# Altium schematic symbol library power supplies.SchLib: 55 symbols
Pins are listed as number, name and electrical type; pins without a type are passive.

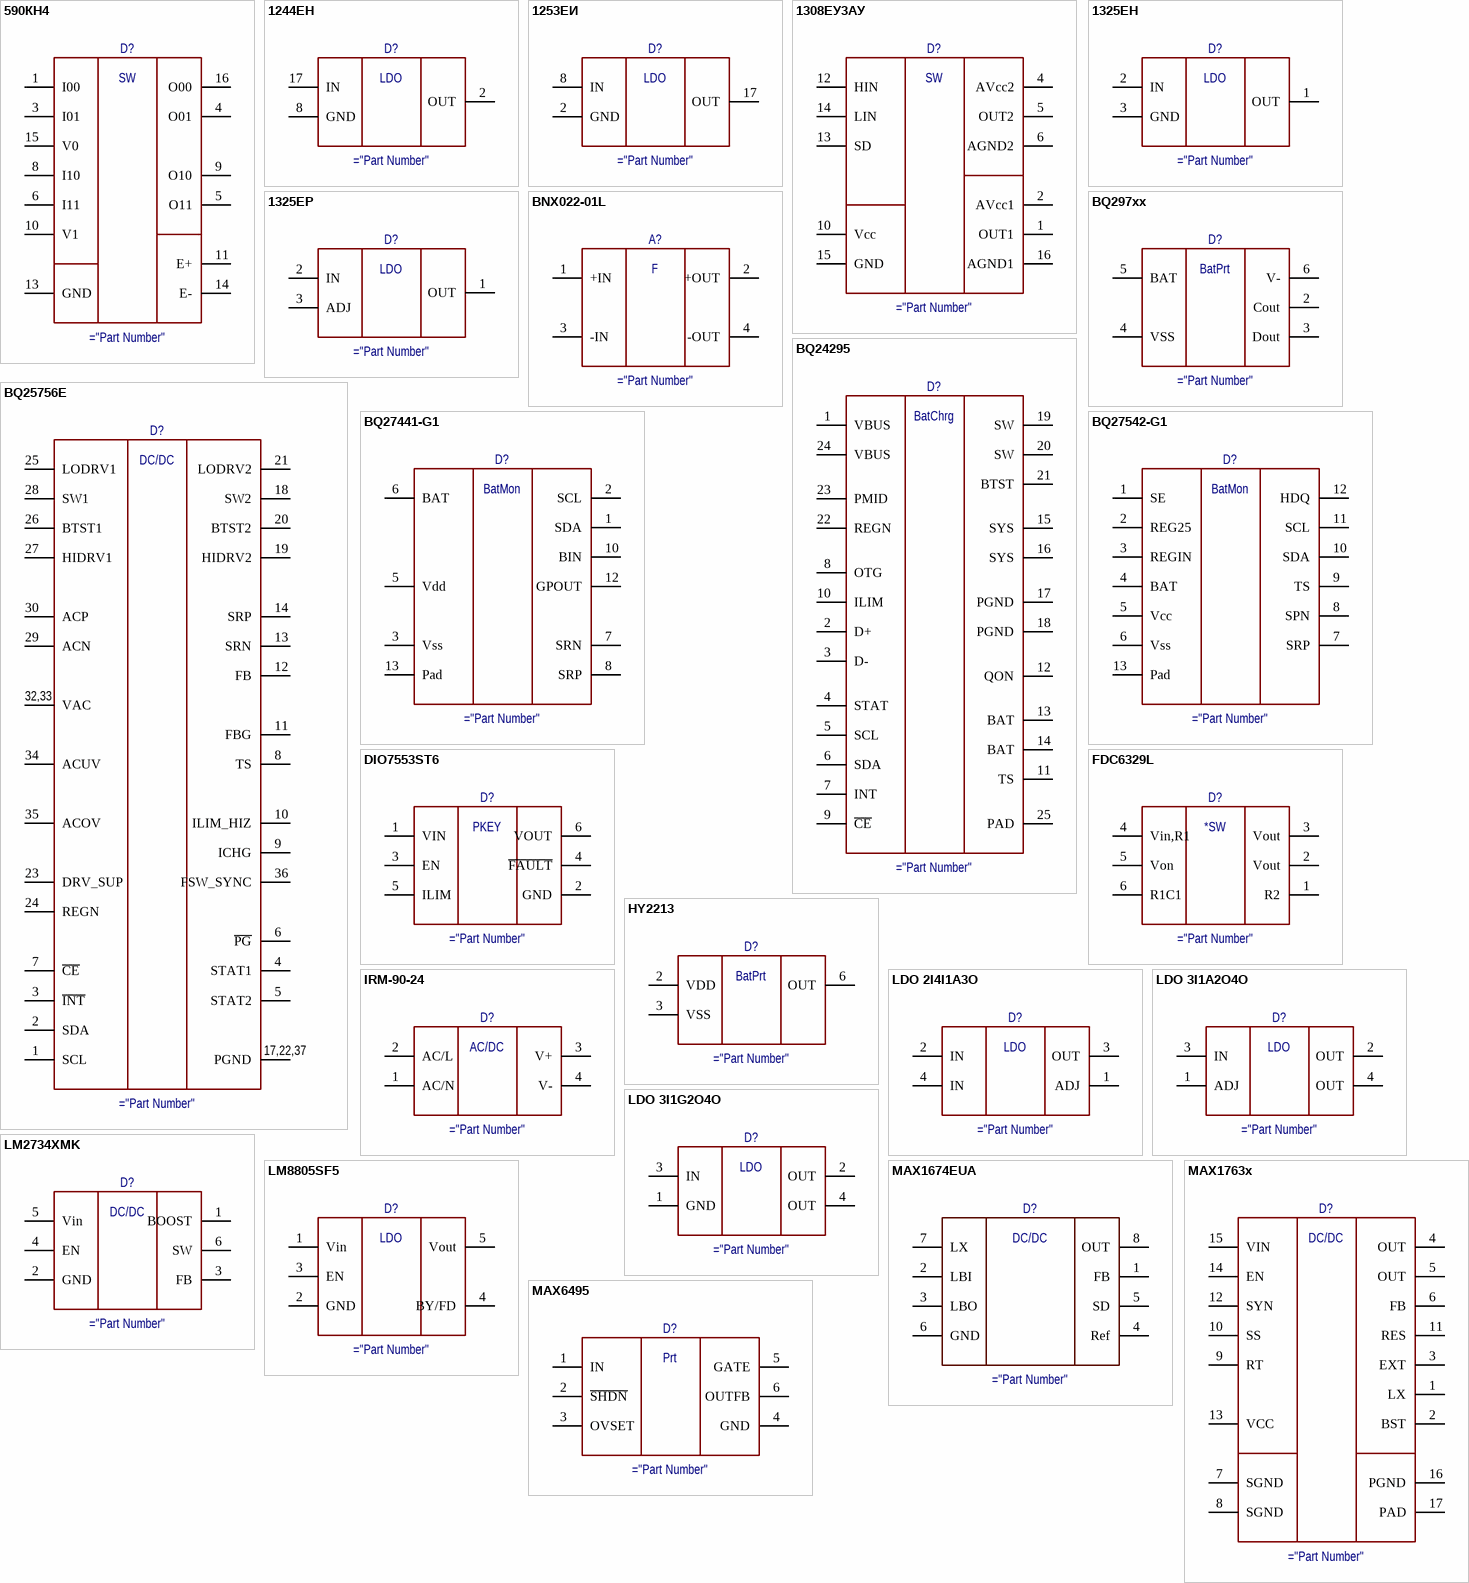
[diagram p0: symbols 590КН4 to MAX6495]

## 590КН4
designator D?
Power Mux
pins: 1 I00, 2 hidden, 3 I01, 4 O01, 5 O11, 6 I11, 7 hidden, 8 I10, 9 O10, 10 V1, 11 E+, 12 hidden, 13 GND, 14 E-, 15 V0, 16 O00
text: SW

## 1244ЕН
designator D?
LDO
pins: 2 OUT, 8 GND, 17 IN

## 1253ЕИ
designator D?
LDO
pins: 2 GND, 8 IN, 17 OUT

## 1308ЕУ3АУ
designator D?
Half-Bridge
pins: 1 OUT1, 2 AVcc1, 3 NC hidden, 4 AVcc2, 5 OUT2, 6 AGND2, 7 NC hidden, 8 NC hidden, 9 NC hidden, 10 Vcc, 11 NC hidden, 12 HIN, 13 SD, 14 LIN, 15 GND, 16 AGND1
text: SW

## 1325ЕН
designator D?
LDO
pins: 1 OUT, 2 IN, 3 GND

## 1325ЕР
designator D?
LDO
pins: 1 OUT, 2 IN, 3 ADJ

## BNX022-01L
designator A?
Filter
pins: 1 +IN, 2 +OUT, 3 -IN, 4 -OUT
text: F

## BQ297xx
designator D?
Battery Protection
pins: 1 NC hidden, 2 Cout, 3 Dout, 4 VSS, 5 BAT, 6 V-
text: BatPrt

## BQ24295
designator D?
Battery Charger 3A
pins: 1 VBUS, 2 D+, 3 D-, 4 STAT, 5 SCL, 6 SDA, 7 INT, 8 OTG, 9 ~{CE}, 10 ILIM, 11 TS, 12 QON, 13 BAT, 14 BAT, 15 SYS, 16 SYS, 17 PGND, 18 PGND, 19 SW, 20 SW, 21 BTST, 22 REGN, 23 PMID, 24 VBUS, 25 PAD
text: BatChrg

## BQ25756E
designator D?
Li-ion charger
pins: 1 SCL, 2 SDA, 3 ~{INT}, 4 STAT1, 5 STAT2, 6 ~{PG}, 7 ~{CE}, 8 TS, 9 ICHG, 10 ILIM_HIZ, 11 FBG, 12 FB, 13 SRN, 14 SRP, 17 PGND, 18 SW2, 19 HIDRV2, 20 BTST2, 21 LODRV2, 22 PGND, 23 DRV_SUP, 24 REGN, 25 LODRV1, 26 BTST1, 27 HIDRV1, 28 SW1, 29 ACN, 30 ACP, 32 VAC, 33 VAC, 34 ACUV, 35 ACOV, 36 FSW_SYNC, 37 PGND
text: DC/DC; 32,33; 17,22,37

## BQ27441-G1
designator D?
Battery Monitor
pins: 1 SDA, 2 SCL, 3 Vss, 4 NC hidden, 5 Vdd, 6 BAT, 7 SRN, 8 SRP, 9 NC hidden, 10 BIN, 11 NC hidden, 12 GPOUT, 13 Pad
text: BatMon

## BQ27542-G1
designator D?
Battery Monitor
pins: 1 SE, 2 REG25, 3 REGIN, 4 BAT, 5 Vcc, 6 Vss, 7 SRP, 8 SPN, 9 TS, 10 SDA, 11 SCL, 12 HDQ, 13 Pad, 14 PPAD hidden, 15 PPAD hidden, 16 PPAD hidden, 17 PPAD hidden, 18 PPAD hidden, 19 PPAD hidden, 20 PPAD hidden
text: BatMon

## DIO7553ST6
designator D?
Load Switch
pins: 1 VIN, 2 GND, 3 EN, 4 ~{FAULT}, 5 ILIM, 6 VOUT
text: PKEY

## FDC6329L
designator D?
Load Switch
pins: 1 R2, 2 Vout, 3 Vout, 4 Vin,R1, 5 Von, 6 R1C1
text: *SW

## HY2213
designator D?
Battery Protection
pins: 1 NC hidden, 2 VDD, 3 VSS, 4 NC hidden, 5 NC hidden, 6 OUT
text: BatPrt

## IRM-90-24
designator D?
AC/DC, 90W, 80-305 VAC, 24V output
pins: 1 AC/N, 2 AC/L, 3 V+, 4 V-
text: AC/DC

## LDO 2I4I1A3O
designator D?
LDO Negative
pins: 1 ADJ, 2 IN, 3 OUT, 4 IN
text: LDO

## LDO 3I1A2O4O
designator D?
LDO
pins: 1 ADJ, 2 OUT, 3 IN, 4 OUT

## LDO 3I1G2O4O
designator D?
LDO
pins: 1 GND, 2 OUT, 3 IN, 4 OUT

## LM2734XMK
designator D?
DC/DC 1A
pins: 1 BOOST, 2 GND, 3 FB, 4 EN, 5 Vin, 6 SW
text: DC/DC

## LM8805SF5
designator D?
LDO 600mA SOT-23-5
pins: 1 Vin, 2 GND, 3 EN, 4 BY/FD, 5 Vout
text: LDO

## MAX1674EUA
designator D?
DC-DC
pins: 1 FB, 2 LBI, 3 LBO, 4 Ref, 5 SD, 6 GND, 7 LX, 8 OUT
text: DC/DC

## MAX1763x
designator D?
DC-DC step down
pins: 1 LX, 2 BST, 3 EXT, 4 OUT, 5 OUT, 6 FB, 7 SGND, 8 SGND, 9 RT, 10 SS, 11 RES, 12 SYN, 13 VCC, 14 EN, 15 VIN, 16 PGND, 17 PAD
text: DC/DC

## MAX6495
designator D?
Overvoltage Protection
pins: 1 IN, 2 ~{SHDN}, 3 OVSET, 4 GND, 5 GATE, 6 OUTFB
text: Prt

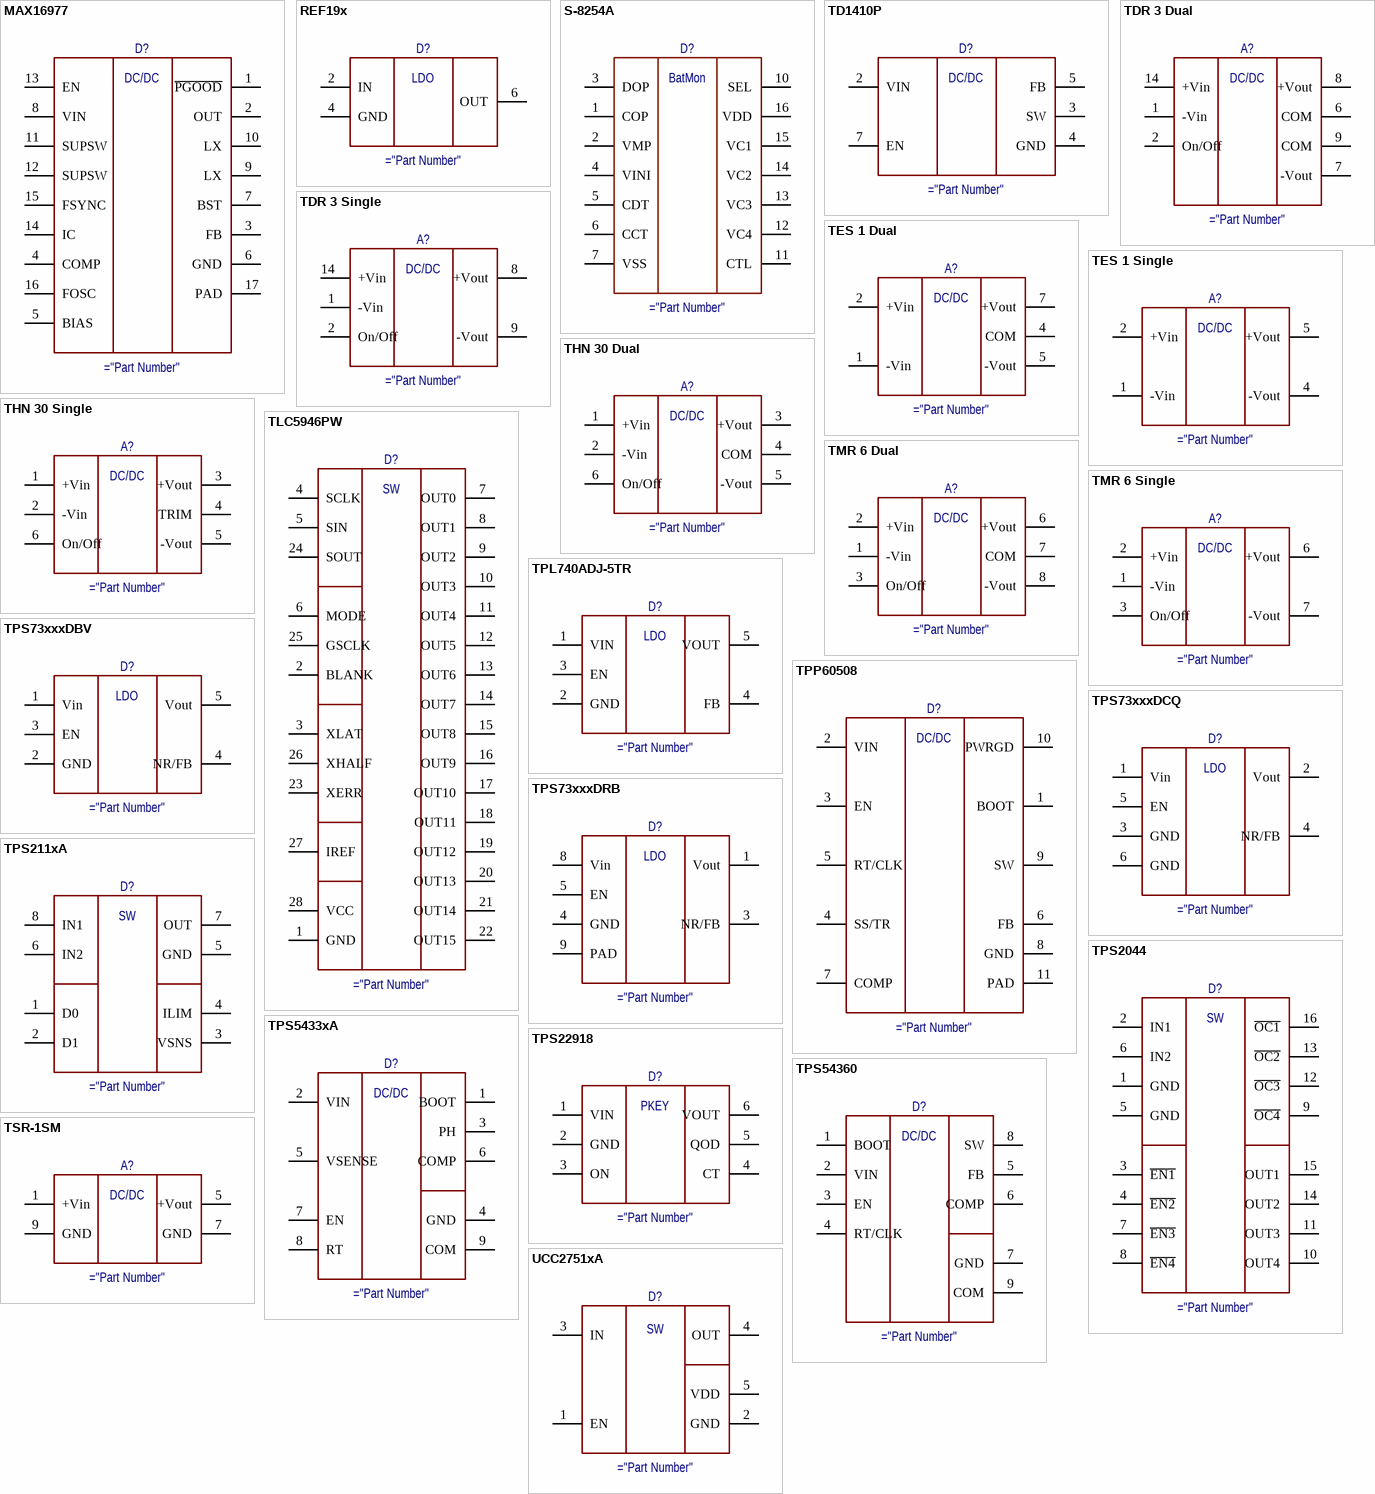
[diagram p1: symbols MAX16977 to UCC2751xA]

## MAX16977
designator D?
DC-DC
pins: 1 ~{PGOOD}, 2 OUT, 3 FB, 4 COMP, 5 BIAS, 6 GND, 7 BST, 8 VIN, 9 LX, 10 LX, 11 SUPSW, 12 SUPSW, 13 EN, 14 IC, 15 FSYNC, 16 FOSC, 17 PAD
text: DC/DC

## REF19x
designator D?
Reference
pins: 2 IN, 4 GND, 6 OUT
text: LDO

## S-8254A
designator D?
BATTERY PROTECTION IC / FOR 3-SERIAL- OR 4-SERIAL-CELL PACK
pins: 1 COP, 2 VMP, 3 DOP, 4 VINI, 5 CDT, 6 CCT, 7 VSS, 10 SEL, 11 CTL, 12 VC4, 13 VC3, 14 VC2, 15 VC1, 16 VDD
text: BatMon

## TD1410P
designator D?
DC-DC
pins: 1 NC hidden, 2 VIN, 3 SW, 4 GND, 5 FB, 6 NC hidden, 7 EN, 8 NC hidden
text: DC/DC

## TDR 3 Dual
designator A?
DC/DC 2 ch, 3 Wt
pins: 1 -Vin, 2 On/Off, 6 COM, 7 -Vout, 8 +Vout, 9 COM, 14 +Vin
text: DC/DC

## TDR 3 Single
designator A?
DC/DC 1 ch, 3 Wt
pins: 1 -Vin, 2 On/Off, 6 NC hidden, 7 NC hidden, 8 +Vout, 9 -Vout, 14 +Vin
text: DC/DC

## TES 1 Dual
designator A?
DC/DC 2ch, 1W
pins: 1 -Vin, 2 +Vin, 4 COM, 5 -Vout, 7 +Vout
text: DC/DC

## TES 1 Single
designator A?
DC/DC 1ch, 1W
pins: 1 -Vin, 2 +Vin, 4 -Vout, 5 +Vout
text: DC/DC

## THN 30 Dual
designator A?
DC/DC 2ch, 30W
pins: 1 +Vin, 2 -Vin, 3 +Vout, 4 COM, 5 -Vout, 6 On/Off
text: DC/DC

## THN 30 Single
designator A?
DC/DC 1ch, 30W
pins: 1 +Vin, 2 -Vin, 3 +Vout, 4 TRIM, 5 -Vout, 6 On/Off
text: DC/DC

## TLC5946PW
designator D?
LED Driver
pins: 1 GND, 2 BLANK, 3 XLAT, 4 SCLK, 5 SIN, 6 MODE, 7 OUT0, 8 OUT1, 9 OUT2, 10 OUT3, 11 OUT4, 12 OUT5, 13 OUT6, 14 OUT7, 15 OUT8, 16 OUT9, 17 OUT10, 18 OUT11, 19 OUT12, 20 OUT13, 21 OUT14, 22 OUT15, 23 XERR, 24 SOUT, 25 GSCLK, 26 XHALF, 27 IREF, 28 VCC
text: SW

## TMR 6 Dual
designator A?
DC/DC 2ch, 6W
pins: 1 -Vin, 2 +Vin, 3 On/Off, 6 +Vout, 7 COM, 8 -Vout
text: DC/DC

## TMR 6 Single
designator A?
DC/DC 1ch, 6W
pins: 1 -Vin, 2 +Vin, 3 On/Off, 6 +Vout, 7 -Vout
text: DC/DC

## TPL740ADJ-5TR
designator D?
Adjustable (0.8 V ~ 5 V)
pins: 1 VIN, 2 GND, 3 EN, 4 FB, 5 VOUT
text: LDO

## TPP60508
designator D?
DC/DC
pins: 1 BOOT, 2 VIN, 3 EN, 4 SS/TR, 5 RT/CLK, 6 FB, 7 COMP, 8 GND, 9 SW, 10 PWRGD, 11 PAD

## TPS73xxxDBV
designator D?
LDO SOT-23-5
pins: 1 Vin, 2 GND, 3 EN, 4 NR/FB, 5 Vout
text: LDO

## TPS73xxxDCQ
designator D?
LDO SOT-223
pins: 1 Vin, 2 Vout, 3 GND, 4 NR/FB, 5 EN, 6 GND
text: LDO

## TPS73xxxDRB
designator D?
LDO SON-8
pins: 1 Vout, 3 NR/FB, 4 GND, 5 EN, 8 Vin, 9 PAD
text: LDO

## TPS211xA
designator D?
Power Mux
pins: 1 D0, 2 D1, 3 VSNS, 4 ILIM, 5 GND, 6 IN2, 7 OUT, 8 IN1
text: SW

## TPS2044
designator D?
Power Mux
pins: 1 GND, 2 IN1, 3 ~{EN1}, 4 ~{EN2}, 5 GND, 6 IN2, 7 ~{EN3}, 8 ~{EN4}, 9 ~{OC4}, 10 OUT4, 11 OUT3, 12 ~{OC3}, 13 ~{OC2}, 14 OUT2, 15 OUT1, 16 ~{OC1}
text: SW

## TPS5433xA
designator D?
DC/DC 1 ch, 3 A
pins: 1 BOOT, 2 VIN, 3 PH, 4 GND, 5 VSENSE, 6 COMP, 7 EN, 8 RT, 9 COM
text: DC/DC

## TPS22918
designator D?
Load Switch
pins: 1 VIN, 2 GND, 3 ON, 4 CT, 5 QOD, 6 VOUT
text: PKEY

## TPS54360
designator D?
DC/DC 1 ch, 3.5 A
pins: 1 BOOT, 2 VIN, 3 EN, 4 RT/CLK, 5 FB, 6 COMP, 7 GND, 8 SW, 9 COM
text: DC/DC

## TSR-1SM
designator A?
DC/DC 1ch, 1A
pins: 1 +Vin, 5 +Vout, 7 GND, 9 GND
text: DC/DC

## UCC2751xA
designator D?
Gate Driver
pins: 1 EN, 2 GND, 3 IN, 4 OUT, 5 VDD
text: SW

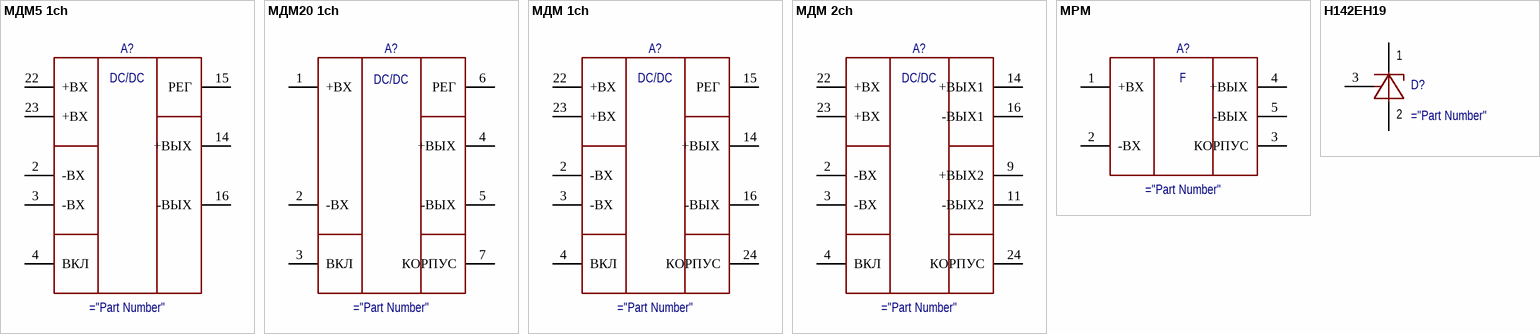
[diagram p2: symbols МДМ5 1ch to Н142ЕН19]

## МДМ5 1ch
designator A?
DC-DC 1ch
pins: 2 -ВХ, 3 -ВХ, 4 ВКЛ, 9 hidden, 11 hidden, 14 +ВЫХ, 15 РЕГ, 16 -ВЫХ, 22 +ВХ, 23 +ВХ
text: DC/DC

## МДМ20 1ch
designator A?
DC-DC 1ch
pins: 1 +ВХ, 2 -ВХ, 3 ВКЛ, 4 +ВЫХ, 5 -ВЫХ, 6 РЕГ, 7 КОРПУС
text: DC/DC

## МДМ 1ch
designator A?
DC-DC 1ch
pins: 2 -ВХ, 3 -ВХ, 4 ВКЛ, 9 hidden, 11 hidden, 14 +ВЫХ, 15 РЕГ, 16 -ВЫХ, 22 +ВХ, 23 +ВХ, 24 КОРПУС
text: DC/DC

## МДМ 2ch
designator A?
DC-DC 2ch
pins: 2 -ВХ, 3 -ВХ, 4 ВКЛ, 9 +ВЫХ2, 11 -ВЫХ2, 14 +ВЫХ1, 16 -ВЫХ1, 22 +ВХ, 23 +ВХ, 24 КОРПУС
text: DC/DC

## МРМ
designator A?
Filter
pins: 1 +ВХ, 2 -ВХ, 3 КОРПУС, 4 +ВЫХ, 5 -ВЫХ, 6 hidden, 7 hidden
text: F

## Н142ЕН19
designator D?
pins: 1 KAT, 2 AN, 3 REF, 4 NC hidden, 5 NC hidden, 6 NC hidden, 7 NC hidden, 8 NC hidden